# Altium footprint library MQ4_GAS_SENS.PcbLib: 1 footprints
Each footprint in its own frame and in the unit in brackets; x right, y up, seen from the top. Pads: shape width x height; smd on the part's side, far side on the other; paste and mask are expansions set on the pad; w line width, h text height; cw(c..) or ccw(c..) is an arc to the next point about the centre after c.
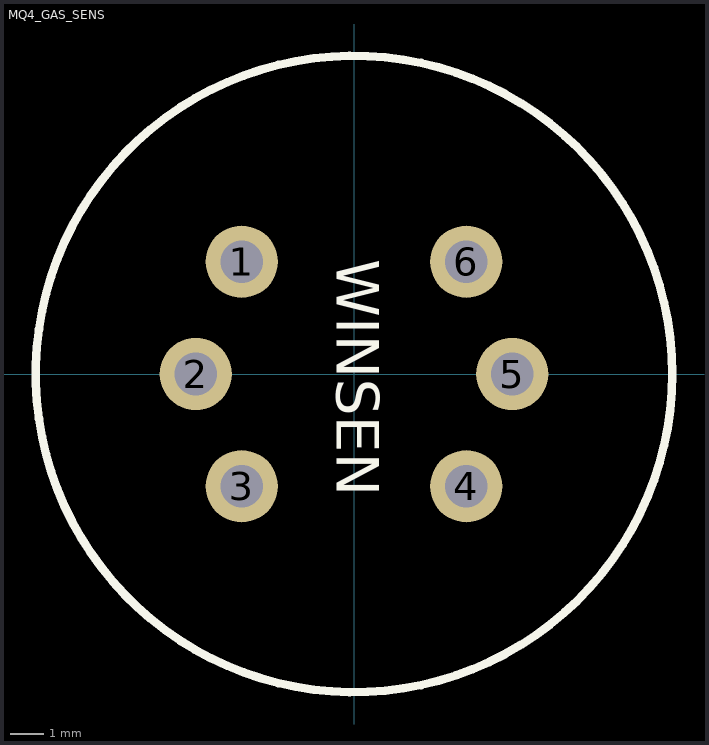
[diagram p0: the footprint, top view; thin cyan lines are the x and y axes]

## MQ4_GAS_SENS [mil]
pads (6):
  round 85 hole 50: 1(-132,132) 2(-186,0) 3(-132,-132) 4(132,-132) 5(186,0) 6(132,132)
Top Overlay:
  circle w10: c0,0 r374.02
  text "WINSEN" at -20,135 h50